# EAGLE library part SW_DP3T_SLIDE (library wheat)
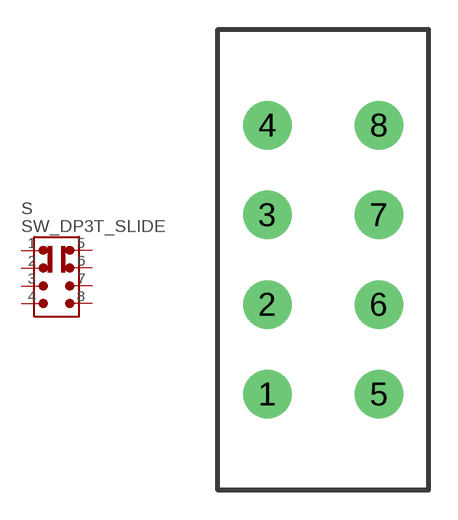
[diagram p222: symbol with the pads of SW_DP3T_CKL; footprint SW_DP3T_CKL]

Designator prefix S

## SW_DP3T_SLIDE  [SW_DP3T_CKL]
1  1  pas
2  2  pas
3  3  pas
4  4  pas
5  5  pas
6  6  pas
7  7  pas
8  8  pas

## Footprint SW_DP3T_CKL (pad centres in mm)
drill 1.651: 1 -2.857,-6.896; 2 -2.857,-2.299; 3 -2.857,2.299; 4 -2.857,6.896; 5 2.857,-6.896; 6 2.857,-2.299; 7 2.857,2.299; 8 2.857,6.896